# EAGLE library part 691401710013 (library Terminal_Blocks_Connectors_rev15e)
WR-TBL Terminal block - serie 401 5,0mm - Spring clamp/Screw less - horizontal entry - 13p Code:Con_TBL_Screwless_5.00_6914017100xxB_691401710013 <http://katalog.we-online.de/media/images/eican/Con_TBL_Screwless_5.00_6914017100xxB_pf2.jpg> Details see: http://katalog.we-online.de/en/em/691_401_710_0xx/691_401_710_013B?m Created 2014-12-22, aslant tao 2014 (C) Würth Elektronik
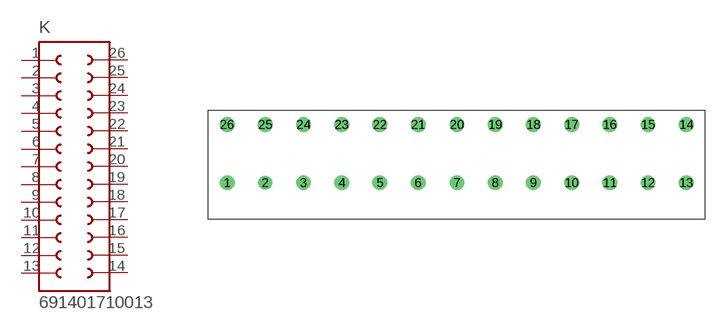
[diagram p242: symbol with the pads of 691401710013; footprint 691401710013]

Designator prefix K

## 691401710013  [691401710013]
1  1  pas
2  2  pas
3  3  pas
4  4  pas
5  5  pas
6  6  pas
7  7  pas
8  8  pas
9  9  pas
10  10  pas
11  11  pas
12  12  pas
13  13  pas
14  14  pas
15  15  pas
16  16  pas
17  17  pas
18  18  pas
19  19  pas
20  20  pas
21  21  pas
22  22  pas
23  23  pas
24  24  pas
25  25  pas
26  26  pas

## Footprint 691401710013 (pad centres in mm)
WR-TBL Serie 401 - 5.0mm Screwless Horizontal Entry - 2 mm2 Wires, 13 Pins
drill 1.3: 1 -50.08,0; 3 -40.08,0; 4 -35.08,0; 5 -30.08,0; 6 -25.08,0; 7 -20,0; 8 -15,0; 9 -10,0; 10 -5,0; 11 0,0; 12 5,0; 13 10,0; 14 10,7.62; 15 5,7.62; 16 0,7.62; 17 -5,7.62; 18 -10,7.62; 19 -15,7.62; 20 -20,7.62; 21 -25.08,7.62; 22 -30.08,7.62; 23 -35.08,7.62; 24 -40.08,7.62; 25 -45.08,7.62; 26 -50.08,7.62
drill 1.2: 2 -45.08,0